# EAGLE library part POT-DUAL (library sonic-detours)
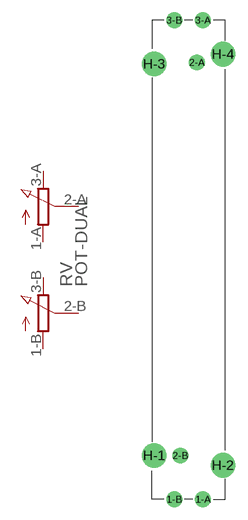
[diagram p8: symbol with the pads of POT-DUAL-PTA4544; footprint POT-DUAL-PTA4544]

Designator prefix RV

## POT-DUALBOURNS-PTA4544  [POT-DUAL-PTA4544]
1-A  A-1  pas
1-B  B-1  pas
2-A  A-2  pas
2-B  B-2  pas
3-A  A-3  pas
3-B  B-3  pas

## Footprint POT-DUAL-PTA4544 (pad centres in mm)
drill 1.2 pad 1.93: 1-A 1.75,-58.42; 1-B -1.75,-58.42; 2-A 1,-5.07; 2-B -1,-53.07; 3-A 1.75,0.08; 3-B -1.75,0.08
drill 2 pad 2.54: H-1 -4.2,-53.07; H-2 4.2,-54.27; H-3 -4.2,-5.27; H-4 4.2,-4.07